# EAGLE library part NU1S041-434 (library xess)
RJ45 connector with integrated transformer and LEDs.
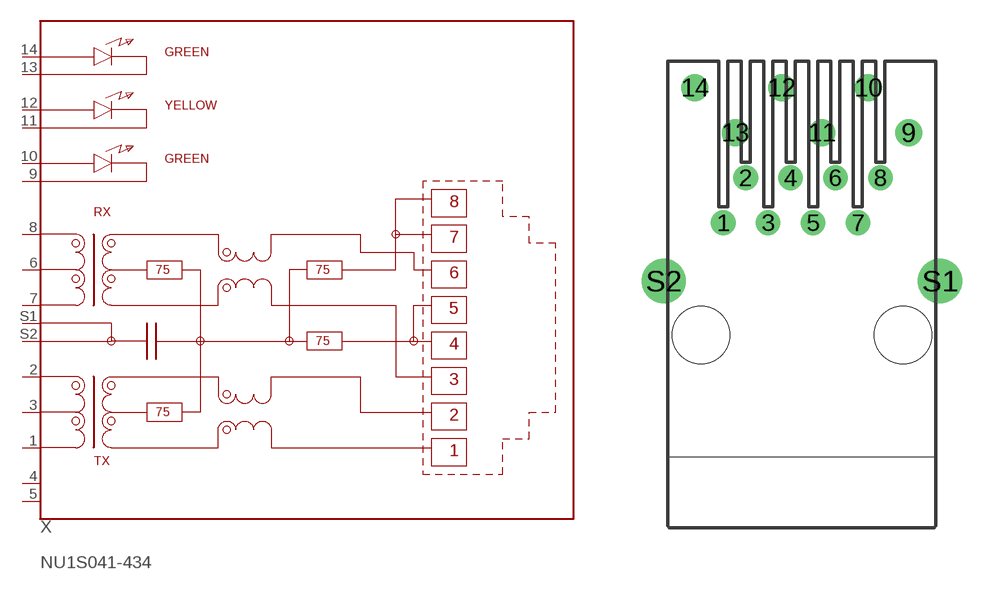
[diagram p29: symbol with the pads of RJ45+LED-LANMATE; footprint RJ45+LED-LANMATE]

Designator prefix X

## NU1S041-434  [RJ45+LED-LANMATE]
1  1  pas
2  2  pas
3  3  pas
4  4  nc
5  5  nc
6  6  pas
7  7  pas
8  8  pas
9  9
10  10
11  11
12  12
13  13
14  14
S1  S1  pas
S2  S2  pas

## Footprint RJ45+LED-LANMATE (pad centres in mm)
drill 0.889 round: 1 -4.445,5.08; 2 -3.175,7.62; 3 -1.905,5.08; 4 -0.635,7.62; 5 0.635,5.08; 6 1.905,7.62; 7 3.175,5.08; 8 4.445,7.62
drill 1.016 round: 9 6.045,10.16; 10 3.759,12.7; 11 1.143,10.16; 12 -1.143,12.7; 13 -3.759,10.16; 14 -6.045,12.7
drill 1.676 round: S1 7.811,1.778; S2 -7.811,1.778
hole 3.251 at -5.715,-1.27
hole 3.251 at 5.715,-1.27